# EAGLE library part ZC563900 (library NODEMCULUA)
NodeMcu Lua ESP8266 WIFI Internet of Things Network Development Module Board Check availability <https://pricing.snapeda.com/parts/ZC563900/YKS/view-part?ref=eda>
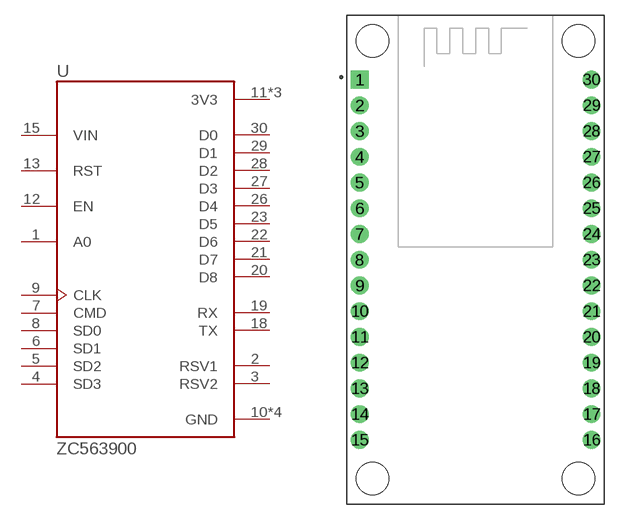
[diagram p0: symbol with the pads of MODULE_ZC563900; footprint MODULE_ZC563900]

Designator prefix U

## ZC563900 (Availability: Not in stock; Description: NodeMcu Lua ESP8266 WIFI Internet of Things Network Development Module Board; MF: YKS; MP: ZC563900; Package: None; Price: None)  [MODULE_ZC563900]
1  A0  in
2  RSV1  pas
3  RSV2  pas
4  SD3
5  SD2
6  SD1
7  CMD  in
8  SD0
9  CLK  in
10  GND  pwr
11  3V3  pwr
12  EN  in
13  RST  in
14  GND  pwr
15  VIN  in
16  3V3  pwr
17  GND  pwr
18  TX
19  RX
20  D8
21  D7
22  D6
23  D5
24  GND  pwr
25  3V3  pwr
26  D4
27  D3
28  D2
29  D1
30  D0

## Footprint MODULE_ZC563900 (pad centres in mm)
drill 0.889 pad 1.753 square: 1 -11.43,17.78
drill 0.889 pad 1.753: 2 -11.43,15.24; 3 -11.43,12.7; 4 -11.43,10.16; 5 -11.43,7.62; 6 -11.43,5.08; 7 -11.43,2.54; 8 -11.43,0; 9 -11.43,-2.54; 10 -11.43,-5.08; 11 -11.43,-7.62; 12 -11.43,-10.16; 13 -11.43,-12.7; 14 -11.43,-15.24; 15 -11.43,-17.78; 16 11.43,-17.78; 17 11.43,-15.24; 18 11.43,-12.7; 19 11.43,-10.16; 20 11.43,-7.62; 21 11.43,-5.08; 22 11.43,-2.54; 23 11.43,0; 24 11.43,2.54; 25 11.43,5.08; 26 11.43,7.62; 27 11.43,10.16; 28 11.43,12.7; 29 11.43,15.24; 30 11.43,17.78
hole 3.2 at -10.16,21.59
hole 3.2 at 10.16,21.59
hole 3.2 at 10.16,-21.59
hole 3.2 at -10.16,-21.59